# Altium footprint library NX8045GB.PcbLib: 1 footprints
Each footprint in its own frame and in the unit in brackets; x right, y up, seen from the top. Pads: shape width x height; smd on the part's side, far side on the other; paste and mask are expansions set on the pad; w line width, h text height; cw(c..) or ccw(c..) is an arc to the next point about the centre after c.
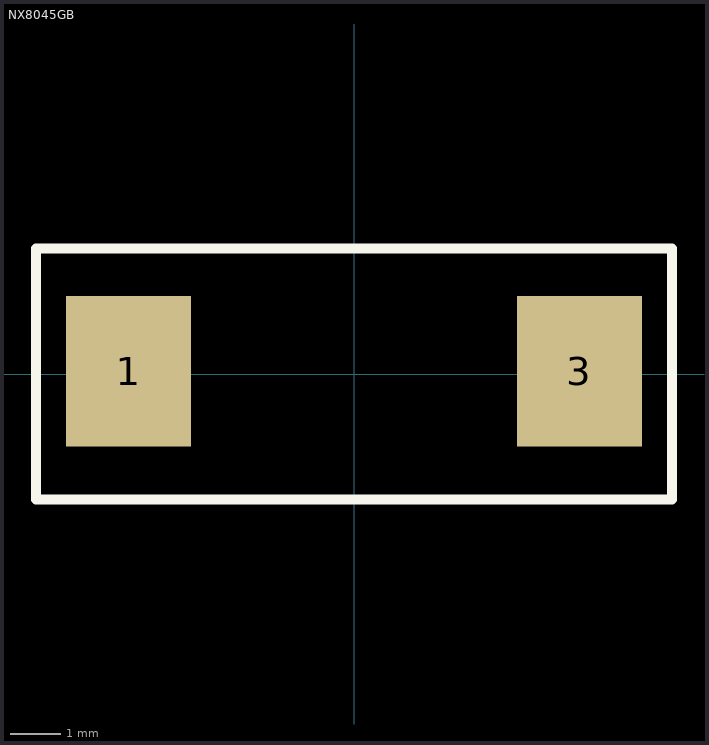
[diagram p0: the footprint, top view; thin cyan lines are the x and y axes]

## NX8045GB [mm]
pads (2):
  rect 2.5x3 smd: 1(-4.5,0.057) 3(4.5,0.057)
Top Overlay:
  lines w0.2: -6.35,-2.5 -6.35,2.5 6.35,2.5 6.35,-2.5 -6.35,-2.5
3D body: height 1.8, standoff 0, extent -4,-2.25 4,2.25